# Altium integrated library AnalogCommutator.IntLib: 1 symbol
Pins are listed as number, name and electrical type; pins without a type are passive.

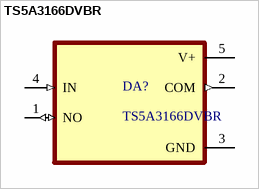
[diagram p0: symbol TS5A3166DVBR]

## TS5A3166DVBR
designator DA?
footprint TS5A3166DVBR
pins: 1 NO (io), 2 COM (out), 3 GND (power), 4 IN (in), 5 V+ (power)